# EAGLE library part GY-521 (library gy-87)
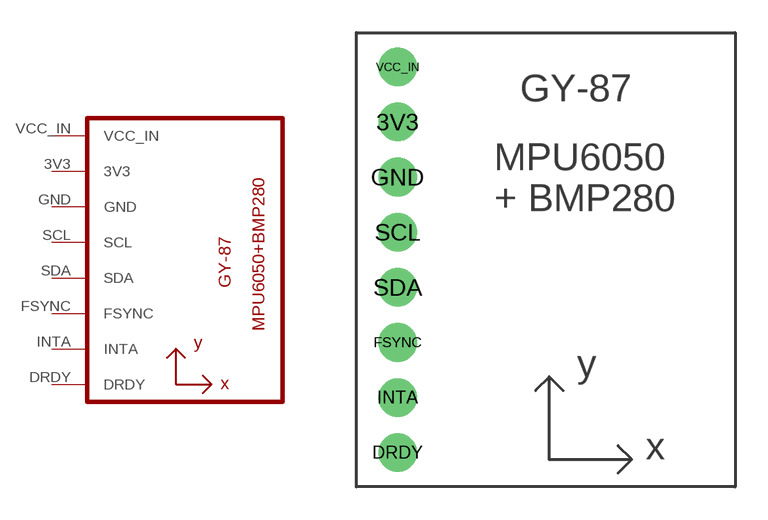
[diagram p0: symbol with the pads of GY-521; footprint GY-521]

Designator prefix U

## GY-521MPU6050  [GY-521]
3V3  3V3
DRDY  DRDY
FSYNC  FSYNC
GND  GND
INTA  INTA
SCL  SCL
SDA  SDA
VCC_IN  VCC_IN

## Footprint GY-521 (pad centres in mm)
drill 0.85 pad 1.778: 3V3 1.905,16.828; DRDY 1.905,1.587; FSYNC 1.905,6.668; GND 1.905,14.287; INTA 1.905,4.128; SCL 1.905,11.748; SDA 1.905,9.207; VCC_IN 1.905,19.367